# Altium schematic symbol library IC_REGULADOR.SchLib: 11 symbols
Pins are listed as number, name and electrical type; pins without a type are passive.

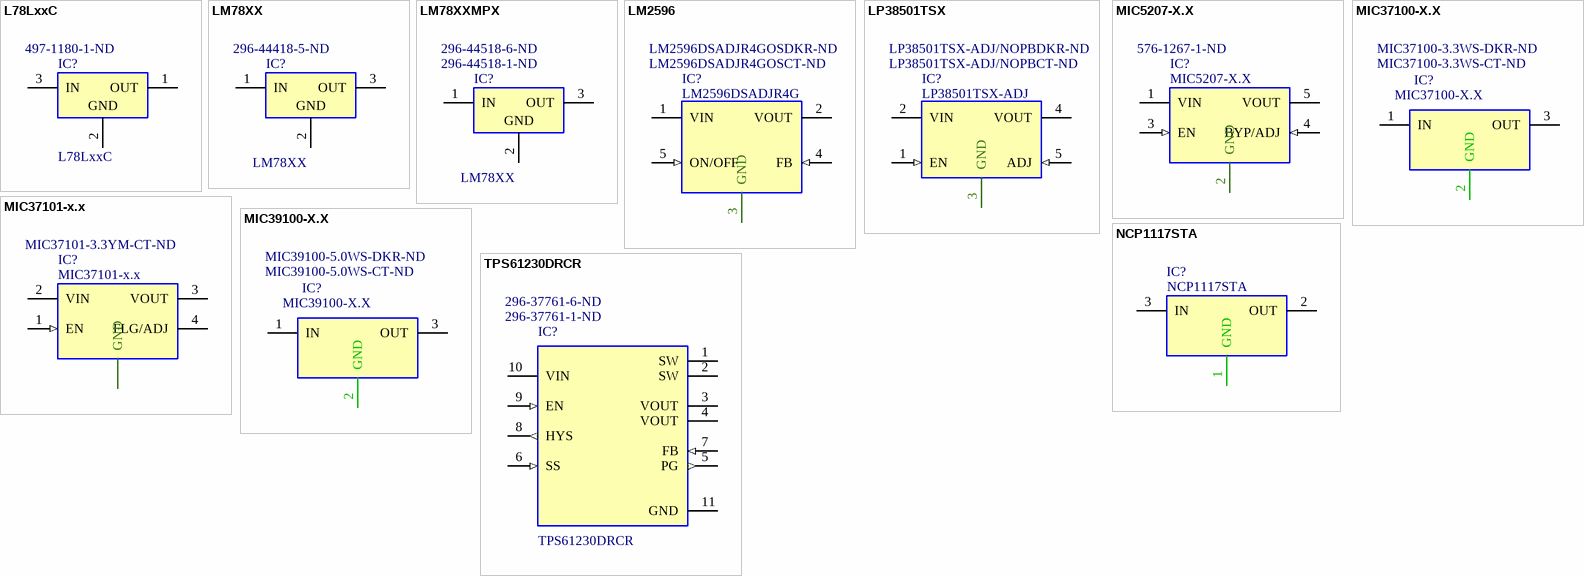
[diagram p0: symbols L78LxxC to TPS61230DRCR]

## L78LxxC
designator IC?  Supplier Part Number 1: 497-1180-1-ND
Positive Voltage Regulator TO-92; Fabricante: FABRICANTE; VALUE: L78LxxC; Footprint: TO-92; MPN: L78LxxC; Supplier 1: Digi-Key
footprint TO92 (TO, Flat Index; 3 In-Line, Axial Leads; Body Dia. 4.8mm; Leads 0.48 x 0.5 mm (max))
pins: 1 OUT (power), 2 GND (power), 3 IN (power)

## LM78XX
designator IC?  Supplier Part Number 1: 296-44418-5-ND
IC REG LINEAR 15V 1A TO220-3; Footprint: TO-220; VALUE: LM78XX; Fabricante: FABRICANTE; MPN: LM78XX; Supplier 1: Digi-Key
footprint TO-220A (TO, Thru-Hole, Vertical, Heatsink Mounted; 3 In-Line Leads; Pitch 2.54 mm)
footprint TO-220AH (TO, Thru-Hole, Horizontall, Heatsink Mounted; 3 In-Line Leads; Pitch 2.54 mm)
pins: 1 IN (power), 2 GND (power), 3 OUT (power)

## LM78XXMPX
designator IC?, comment LM78XX  Supplier Part Number 1: 296-44518-1-ND  Supplier Part Number 2: 296-44518-6-ND
Linear Voltage Regulator IC  1 Output  1.5A SOT-223-4; MPN: LM780XXMPX/NOPB; Fabricante: Texas Instruments; Footprint: SOT223; VALUE: LM78XX; ComponentLink1Description: LOJA; ComponentLink1URL: https://www.digikey.com/product-detail/en/texas-instruments/LM7805MPX-NOPB/296-44518-2-ND/6110583; ComponentLink2Description: DATASHEET; ComponentLink2URL: http://www.ti.com/general/docs/suppproductinfo.tsp?distId=10&gotoUrl=http%3A%2F%2Fwww.ti.com%2Flit%2Fgpn%2Flm340; Supplier 1: Digi-Key; Supplier 2: Digi-Key
footprint SOT223
pins: 1 IN (power), 2 GND (power), 3 OUT (power)

## LM2596
designator IC?, comment LM2596DSADJR4G  Supplier Part Number 1: LM2596DSADJR4GOSCT-ND  Supplier Part Number 2: LM2596DSADJR4GOSDKR-ND
IC REG MULT CONFIG INV ADJ D2PAK; Fabricante: ON SEMI; Value: LM2596DSADJR4G; Footprint: DDPAK, TO 263-5; MPN: LM2596DSADJR4G; ComponentLink1Description: LOJA; ComponentLink1URL: https://www.digikey.com/product-detail/en/on-semiconductor/LM2596DSADJR4G/LM2596DSADJR4GOSCT-ND/3487315; ComponentLink2Description: DATASHEET; ComponentLink2URL: https://www.onsemi.com/pub/Collateral/LM2596-D.PDF; Supplier 1: Digi-Key; Supplier 2: Digi-Key
footprint D2-PAK, TO263-5 (D2-PAK, 6-Pads, Body 7,42x8,44mm (max), IPC Medium Density)
pins: 1 VIN (power), 2 VOUT (power), 3 GND, 4 FB (in), 5 ON/OFF (in), 6 GND

## LP38501TSX
designator IC?, comment LP38501TSX-ADJ  Supplier Part Number 1: LP38501TSX-ADJ/NOPBCT-ND  Supplier Part Number 2: LP38501TSX-ADJ/NOPBDKR-ND
IC REG LIN POS ADJ 3A DDPAK; Fabricante: MICROCHIP; Value: LP38501TSX-ADJ/NOPB; Footprint: DDPAK, TO 263-5; MPN: LP38501TSX-ADJ/NOPB; ComponentLink1Description: LOJA; ComponentLink1URL: https://www.digikey.com/product-detail/en/texas-instruments/LP38501TSX-ADJ-NOPB/LP38501TSX-ADJ-NOPBCT-ND/3527121; ComponentLink2Description: DATASHEET; ComponentLink2URL: http://www.ti.com/lit/ds/symlink/lp38501-adj.pdf; Supplier 1: Digi-Key; Supplier 2: Digi-Key
footprint D2-PAK, TO263-5 (D2-PAK, 6-Pads, Body 7,42x8,44mm (max), IPC Medium Density)
pins: 1 EN (in), 2 VIN (power), 3 GND, 4 VOUT (power), 5 ADJ (in), 6 GND

## MIC5207-X.X
designator IC?  Supplier Part Number 1: 576-1267-1-ND
180 mA Low-Noise LDO Regulator - SOT23-5; Fabricante: MICROCHIP; Value: MIC5207-XX; Footprint: SOT23-5; MPN: MIC5207-XX; ComponentLink1Description: DATASHEET; ComponentLink1URL: http://ww1.microchip.com/downloads/en/DeviceDoc/20005719A.pdf; Supplier 1: Digi-Key
footprint SOT23-5 (SOT23, 5-Leads, Body 2,90x2,80mm, Pitch 0,95mm, IPC Medium Density)
pins: 1 VIN (power), 2 GND, 3 EN (in), 4 BYP/ADJ (in), 5 VOUT (power)

## MIC37100-X.X
designator IC?  Supplier Part Number 1: MIC37100-3.3WS-CT-ND  Supplier Part Number 2: MIC37100-3.3WS-DKR-ND
1A Low-Voltage µCap LDO FIXED, SOT 223; Fabricante: MICREL; Footprint: SOT 223; MPN: MIC37100-X.X; Value: MIC37100-X.X; ComponentLink1Description: LOJA; ComponentLink1URL: https://www.digikey.com/product-detail/en/microchip-technology/MIC37100-3.3WS-TR/MIC37100-3.3WS-CT-ND/7897216; Supplier 1: Digi-Key; Supplier 2: Digi-Key
footprint SOT223
pins: 1 IN (power), 2 GND (power), 3 OUT (power)

## MIC37101-x.x
designator IC?  Supplier Part Number 1: MIC37101-3.3YM-CT-ND
Linear Voltage Regulator IC 1 Output 1A 8-SOIC; Fabricante: MICROCHIP; Value: MIC37101-x.x; Footprint: SOIC 8; MPN: MIC37101-x.x; ComponentLink1Description: LOJA; ComponentLink1URL: https://www.digikey.com/product-detail/en/microchip-technology/MIC37101-3.3YM-TR/MIC37101-3.3YM-CT-ND/8628869; ComponentLink2Description: DATASHEET; ComponentLink2URL: http://ww1.microchip.com/downloads/en/DeviceDoc/mic37100.pdf; Supplier 1: Digi-Key
footprint SOIC 8 - M (SOIC, 8-Leads, Body 4,93x3,94mm, Pitch 1,27mm, IPC Medium Density)
pins: 1 EN (in), 2 VIN (power), 3 VOUT (power), 4 FLG/ADJ, 6 GND

## MIC39100-X.X
designator IC?  Supplier Part Number 1: MIC39100-5.0WS-CT-ND  Supplier Part Number 2: MIC39100-5.0WS-DKR-ND
IC REG LINEAR 5V 1A SOT223, LDO; Fabricante: MICREL; Footprint: SOT 223; MPN: MIC39100-X.X; Value: MIC39100-X.X; ComponentLink1Description: LOJA; ComponentLink1URL: https://www.digikey.com/product-detail/en/microchip-technology/MIC39100-5.0WS-TR/MIC39100-5.0WS-CT-ND/7671937; ComponentLink2Description: DATASHEET; ComponentLink2URL: http://ww1.microchip.com/downloads/en/DeviceDoc/20005834A.pdf; Supplier 1: Digi-Key; Supplier 2: Digi-Key
footprint SOT223
pins: 1 IN (power), 2 GND (power), 3 OUT (power), 4 TAB (power)

## NCP1117STA
designator IC?
IC REG LDO ADJ 1A SOT 223; Fabricante: ON Semiconductor; Footprint: SOT 223; MPN: NCP1117STA; Value: NCP1117STA; Supplier Part Number 1: NCP1117STAT3GOSCT-ND; Supplier 1: Digi-Key
footprint SOT223
pins: 1 GND (power), 2 OUT (power), 3 IN (power), 4 OUT (power)

## TPS61230DRCR
designator IC?  Supplier Part Number 1: 296-37761-1-ND  Supplier Part Number 2: 296-37761-6-ND
High Efficiency Synchronous Boost Converter With 5-A Switch 10-VSON -40 to 85; Fabricante: Texas Instruments; Footprint: VFDFN-10 Texas Instruments; MPN: TPS61230DRCR; Value: TPS61230DRCR; Supplier 1: Digi-Key; Supplier 2: Digi-Key
footprint 10-VSON_3X3
pins: 1 SW (power), 2 SW (power), 3 VOUT (power), 4 VOUT (power), 5 PG (out), 6 SS (in), 7 FB (in), 8 HYS (out), 9 EN (in), 10 VIN (power), 11 GND (power)